# EAGLE library part 2X12 (library con-amp-micro-mate-n-lock)
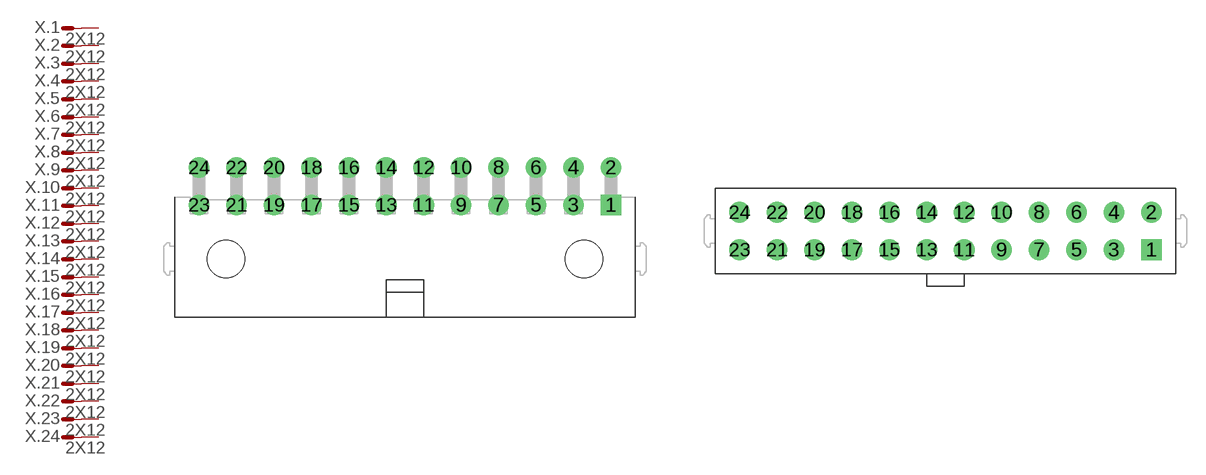
[diagram p16: symbol with the pads of 5-794618-4; footprints 5-794618-4, 5-794630-4]

Designator prefix X; gates .1=M .2=M .3=M .4=M .5=M .6=M .7=M .8=M .9=M .10=M .11=M .12=M .13=M .14=M .15=M .16=M .17=M .18=M .19=M .20=M .21=M .22=M .23=M .24=M

## 2X12-A  [5-794618-4]
1  .1:S  pas
2  .2:S  pas
3  .3:S  pas
4  .4:S  pas
5  .5:S  pas
6  .6:S  pas
7  .7:S  pas
8  .8:S  pas
9  .9:S  pas
10  .10:S  pas
11  .11:S  pas
12  .12:S  pas
13  .13:S  pas
14  .14:S  pas
15  .15:S  pas
16  .16:S  pas
17  .17:S  pas
18  .18:S  pas
19  .19:S  pas
20  .20:S  pas
21  .21:S  pas
22  .22:S  pas
23  .23:S  pas
24  .24:S  pas

## 2X12-B  [5-794630-4]
Pads as for 5-794618-4

## 2X12-C  [5-794677-4]
Pads as for 5-794618-4

## 2X12-D  [5-794680-4]
Pads as for 5-794618-4

## Footprint 5-794618-4 (pad centres in mm)
drill 1.1 square: 1 0,0
drill 1.1 round: 2 0,3; 3 -3,0; 4 -3,3; 5 -6,0; 6 -6,3; 7 -9,0; 8 -9,3; 9 -12,0; 10 -12,3; 11 -15,0; 12 -15,3; 13 -18,0; 14 -18,3; 15 -21,0; 16 -21,3; 17 -24,0; 18 -24,3; 19 -27,0; 20 -27,3; 21 -30,0; 22 -30,3; 23 -33,0; 24 -33,3
hole 3 at -2.15,-4.32
hole 3 at -30.85,-4.32

## Footprint 5-794630-4 (pad centres in mm)
drill 1.1 square: 1 0,0
drill 1.1 round: 2 0,3; 3 -3,0; 4 -3,3; 5 -6,0; 6 -6,3; 7 -9,0; 8 -9,3; 9 -12,0; 10 -12,3; 11 -15,0; 12 -15,3; 13 -18,0; 14 -18,3; 15 -21,0; 16 -21,3; 17 -24,0; 18 -24,3; 19 -27,0; 20 -27,3; 21 -30,0; 22 -30,3; 23 -33,0; 24 -33,3

## Footprint 5-794677-4 (pad centres in mm)
drill 1.1 square: 1 0,0
drill 1.1 round: 2 0,3; 3 -3,0; 4 -3,3; 5 -6,0; 6 -6,3; 7 -9,0; 8 -9,3; 9 -12,0; 10 -12,3; 11 -15,0; 12 -15,3; 13 -18,0; 14 -18,3; 15 -21,0; 16 -21,3; 17 -24,0; 18 -24,3; 19 -27,0; 20 -27,3; 21 -30,0; 22 -30,3; 23 -33,0; 24 -33,3
hole 2.4 at 2.15,-4.32
hole 2.4 at -35.15,-4.32

## Footprint 5-794680-4 (pad centres in mm)
drill 1.1 square: 1 0,0
drill 1.1 round: 2 0,3; 3 -3,0; 4 -3,3; 5 -6,0; 6 -6,3; 7 -9,0; 8 -9,3; 9 -12,0; 10 -12,3; 11 -15,0; 12 -15,3; 13 -18,0; 14 -18,3; 15 -21,0; 16 -21,3; 17 -24,0; 18 -24,3; 19 -27,0; 20 -27,3; 21 -30,0; 22 -30,3; 23 -33,0; 24 -33,3
hole 2.4 at -35.15,1.5
hole 2.4 at 2.15,1.5